# Altium footprint library BMS_Footprints.PcbLib: 16 footprints
Each footprint in its own frame and in the unit in brackets; x right, y up, seen from the top. Pads: shape width x height; smd on the part's side, far side on the other; paste and mask are expansions set on the pad; w line width, h text height; cw(c..) or ccw(c..) is an arc to the next point about the centre after c.
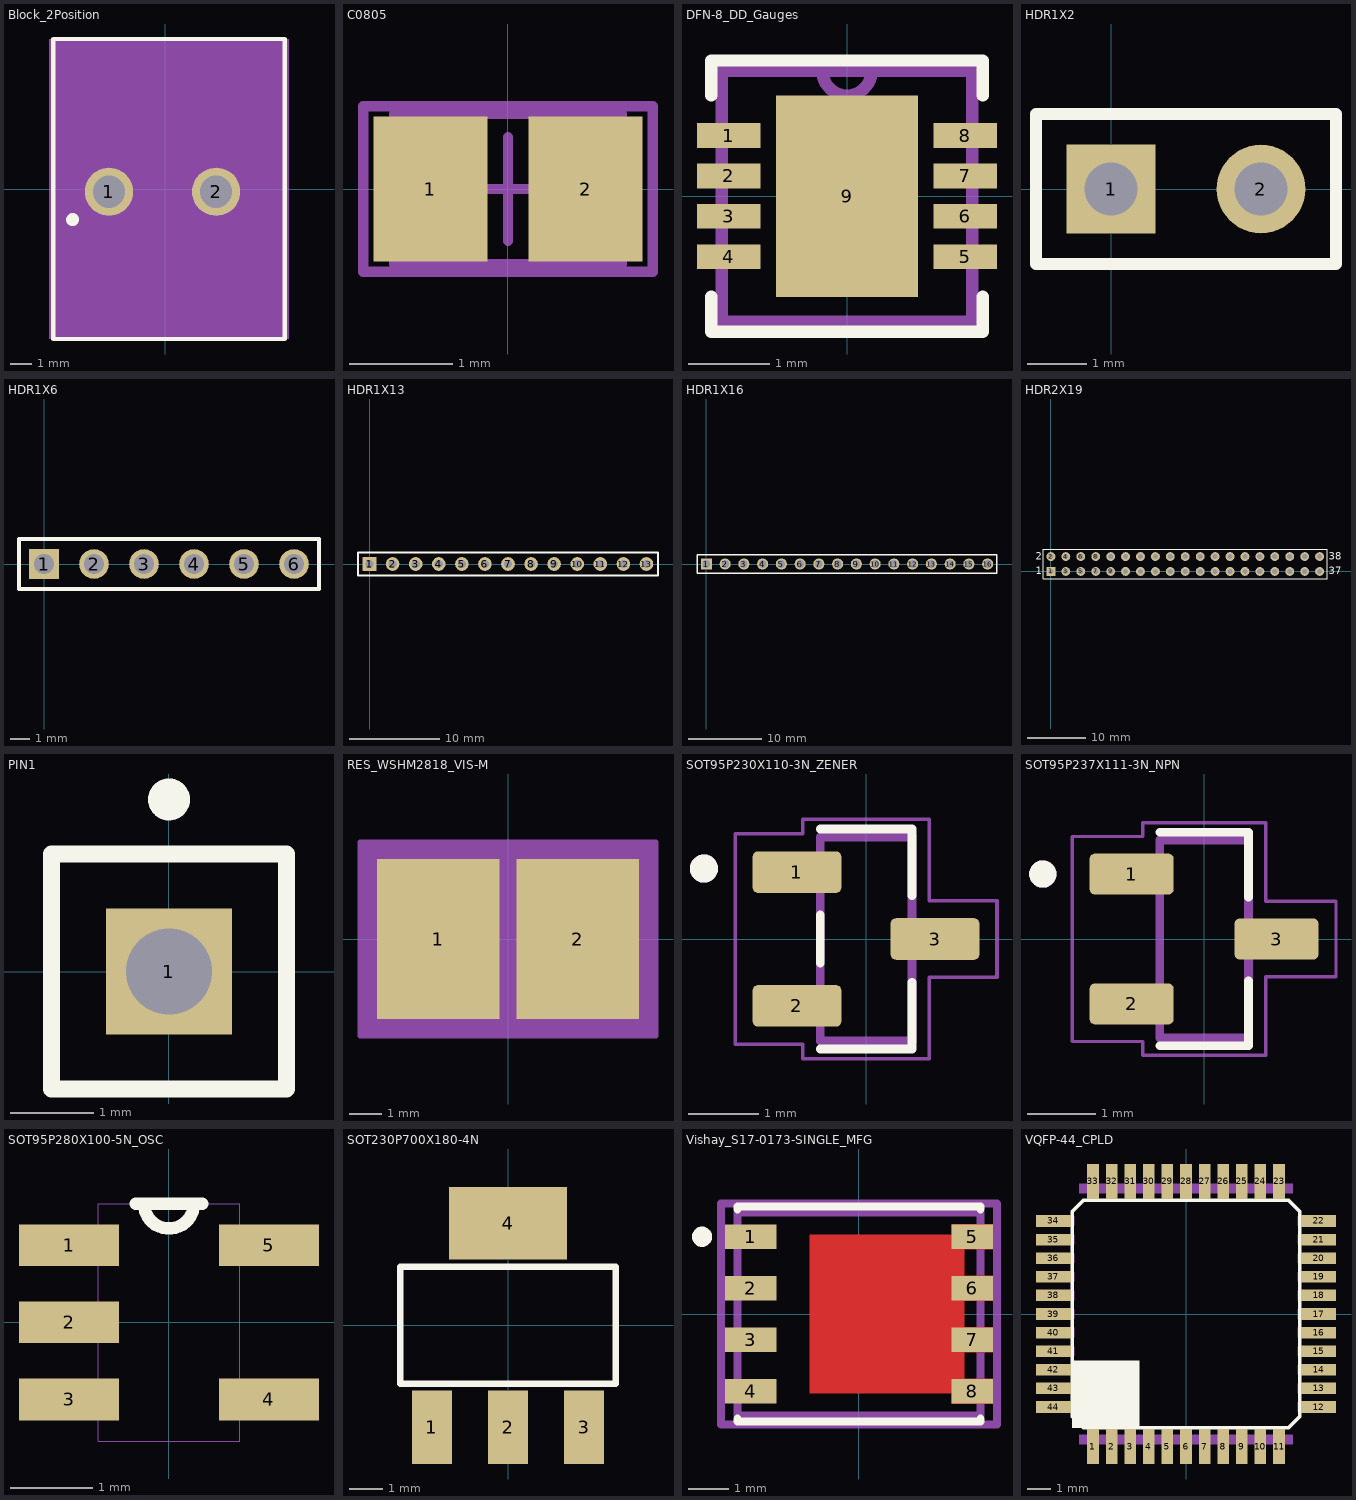
[diagram p0: the footprints below, top view; thin cyan lines are the x and y axes]

## Block_2Position [mm]
pads (2):
  round 2.25 hole 1.5: 1(-2.627,-0.127) 2(2.373,-0.127)
Top Overlay:
  circle w0.4: c-4.327,-1.427 r0.1
  lines w0.2: -5.227,-7 5.573,-7 5.573,-4.387 5.573,-3.157 5.573,4.263 5.573,6.985 ; -5.227,-6.985 -5.227,4.673 -5.227,7 5.573,7
Mechanical 13:
  lines w0.1: -5.127,-6.985 5.473,-6.985 5.473,-4.287 5.473,-3.257 5.473,4.363 5.473,6.985 -5.127,6.985 -5.127,4.573 -5.127,-6.985
Mechanical 15:
  region: 5.773,-6.985 -5.427,-6.985 -5.427,6.985 5.773,6.985
3D body: height 16, standoff 0, extent -5.227,-7 5.573,7

## C0805 [mm] "Chip Capacitor, Body 2.0x1.3mm, IPC High Density"
height 1.4
pads (2):
  rect 1.1x1.4 smd: 1(-0.75,0) 2(0.75,0)
Mechanical 13:
  lines w0.1: -1.1,-0.725 1.1,-0.725 1.1,0.725 -1.1,0.725 -1.1,-0.725
Mechanical 15:
  lines w0.1: -0.5,0 0.5,0 ; 0,-0.5 0,0.5 ; -1.4,-0.8 1.4,-0.8 1.4,0.8 -1.4,0.8 -1.4,-0.8
3D body: height 1.4, standoff 0, extent -1.1,-0.725 1.1,0.725

## DFN-8_DD_Gauges [mil]
pads (9):
  rect 31x12 smd: 1(-57.5,29.53) 2(-57.5,9.84) 3(-57.5,-9.84) 4(-57.5,-29.53) 5(57.5,-29.53) 6(57.5,-9.84) 7(57.5,9.84) 8(57.5,29.53)
  rect 69x98 smd paste-78.74: 9(0,0)
Top Overlay:
  lines w6: -66,-49 -66,-66 66,-66 66,-49 ; -66,49 -66,66 66,66 66,49
Top Paste:
  region: 34.5,-49 -34.5,-49 -34.5,49 34.5,49
Mechanical 13:
  lines w6: -12,61 ccw(c0,61) 12,61 ; -12,61 12,61 ; -12,61 -61,61 -61,-61 61,-61 61,61 12,61
3D body "step_temp.STEP": height 31.5, standoff 0, extent -59.06,-59.06 59.06,59.06

## HDR1X2 [mm] "Connector; Header; 2 Position"
pads (2):
  rect 1.5x1.5 hole 0.9: 1(0,0)
  round 1.5 hole 0.9: 2(2.54,0)
Top Overlay:
  lines w0.2: -1.27,-1.27 3.81,-1.27 3.81,1.27 -1.27,1.27 -1.27,-1.27

## HDR1X6 [mm] "Connector; Header; 6 Position"
pads (6):
  rect 1.5x1.5 hole 1.02: 1(0,0)
  round 1.5 hole 1.02: 2(2.54,0) 3(5.08,0) 4(7.62,0) 5(10.16,0) 6(12.7,0)
Top Overlay:
  lines w0.2: -1.27,-1.27 13.97,-1.27 13.97,1.27 -1.27,1.27 -1.27,-1.27

## HDR1X13 [mm] "Connector; Header; 13 Position"
pads (13):
  rect 1.5x1.5 hole 0.9: 1(0,0)
  round 1.5 hole 0.9: 2(2.54,0) 3(5.08,0) 4(7.62,0) 5(10.16,0) 6(12.7,0) 7(15.24,0) 8(17.78,0) 9(20.32,0) 10(22.86,0) 11(25.4,0) 12(27.94,0) 13(30.48,0)
Top Overlay:
  lines w0.2: -1.27,-1.27 -1.27,1.27 0.635,1.27 31.75,1.27 31.75,-1.27 -1.27,-1.27

## HDR1X16 [mm] "Connector; Header; 16 Position"
pads (16):
  rect 1.5x1.5 hole 1.02: 1(0,0)
  round 1.5 hole 1.02: 2(2.54,0) 3(5.08,0) 4(7.62,0) 5(10.16,0) 6(12.7,0) 7(15.24,0) 8(17.78,0) 9(20.32,0) 10(22.86,0) 11(25.4,0) 12(27.94,0) 13(30.48,0) 14(33.02,0) 15(35.56,0) 16(38.1,0)
Top Overlay:
  lines w0.2: -1.27,-1.27 -1.27,1.27 0.635,1.27 39.37,1.27 39.37,-1.27 -1.27,-1.27

## HDR2X19 [mm] "Connector; Header; 19x2 Position"
pads (38):
  rect 1.5x1.5 hole 0.9: 1(0,0)
  round 1.5 hole 0.9: 2(0,2.54) 3(2.54,0) 4(2.54,2.54) 5(5.08,0) 6(5.08,2.54) 7(7.62,0) 8(7.62,2.54) 9(10.16,0) 10(10.16,2.54) 11(12.7,0) 12(12.7,2.54) 13(15.24,0) 14(15.24,2.54) 15(17.78,0) 16(17.78,2.54) 17(20.32,0) 18(20.32,2.54) 19(22.86,0) 20(22.86,2.54) 21(25.4,0) 22(25.4,2.54) 23(27.94,0) 24(27.94,2.54) 25(30.48,0) 26(30.48,2.54) 27(33.02,0) 28(33.02,2.54) 29(35.56,0) 30(35.56,2.54) 31(38.1,0) 32(38.1,2.54) 33(40.64,0) 34(40.64,2.54) 35(43.18,0) 36(43.18,2.54) 37(45.72,0) 38(45.72,2.54)
Top Overlay:
  lines w0.2: -1.27,-1.27 -1.27,3.81 46.99,3.81 46.99,-1.27 -1.27,-1.27
  text "38" at 47.244,2.032 h1.27
  text "37" at 47.244,-0.508 h1.27
  text "1" at -2.54,-0.508 h1.27
  text "2" at -2.54,2.032 h1.27

## PIN1 [mm] "Connector; Plug"
pads (1):
  rect 1.5x1.5 hole 1.02: 1(0,0)
Top Overlay:
  circle w0.25: c0,2.05 r0.125
  lines w0.2: -1.4,-1.4 1.4,-1.4 1.4,1.4 -1.4,1.4 -1.4,-1.4

## RES_WSHM2818_VIS-M [mil]
pads (2):
  rect 147x192 smd paste+0 mask+0: 1(-83.5,0) 2(83.5,0)
Mechanical 5:
  region: 172,-111 -172,-111 -172,111 172,111
Mechanical 13:
  lines w1: -145,-95 -145,95 ; -145,-95 -10,-95 -10,95 -145,95 ; -145,-95 145,-95 ; -145,-95 -145,95 ; -145,95 145,95 ; 145,-95 10,-95 10,95 145,95 ; 145,-95 145,95 ; 145,-95 145,95
Mechanical 15:
  region: 177,-116 -177,-116 -177,116 177,116
  lines w6: -177,-116 -177,116 177,116 177,-116 -177,-116
3D body: height 10, standoff 0, extent 0,0 10,10

## SOT95P230X110-3N_ZENER [mm]
pads (3):
  rrect25% 1.26x0.59 smd: 1(-0.98,0.95) 2(-0.98,-0.95) 3(0.98,0)
Top Overlay:
  circle w0.2: c-2.3,1 r0.1
  lines w0.127: -0.65,-1.559 0.65,-1.559 0.65,-0.615 ; -0.65,-0.342 -0.65,0.342 ; -0.65,1.559 0.65,1.559 0.65,0.615
Mechanical 13:
  circle w0.2: c-2.3,1 r0.1
  lines w0.127: -0.65,-1.45 -0.65,1.45 0.65,1.45 0.65,-1.45 -0.65,-1.45
Mechanical 15:
  lines w0.05: -1.86,-1.495 -0.9,-1.495 -0.9,-1.7 0.9,-1.7 0.9,-0.545 1.86,-0.545 1.86,0.545 0.9,0.545 0.9,1.7 -0.9,1.7 -0.9,1.495 -1.86,1.495 -1.86,-1.495
3D body "step_temp.STEP": height 1.1, standoff 0, extent -1.15,-1.45 1.15,1.45

## SOT95P237X111-3N_NPN [mm]
pads (3):
  rrect25% 1.23x0.6 smd: 1(-1.06,0.95) 2(-1.06,-0.95) 3(1.06,0)
Top Overlay:
  circle w0.2: c-2.36,0.95 r0.1
  lines w0.127: -0.65,-1.564 0.65,-1.564 0.65,-0.614 ; -0.65,1.564 0.65,1.564 0.65,0.614
Mechanical 13:
  circle w0.2: c-2.36,0.95 r0.1
  lines w0.127: -0.65,-1.45 -0.65,1.45 0.65,1.45 0.65,-1.45 -0.65,-1.45
Mechanical 15:
  lines w0.05: -1.93,-1.5 -0.9,-1.5 -0.9,-1.7 0.9,-1.7 0.9,-0.55 1.93,-0.55 1.93,0.55 0.9,0.55 0.9,1.7 -0.9,1.7 -0.9,1.5 -1.93,1.5 -1.93,-1.5

## SOT95P280X100-5N_OSC [mil]
pads (5):
  rect 48x20 smd: 1(-48,37) 2(-48,0) 3(-48,-37) 4(48,-37) 5(48,37)
Top Overlay:
  lines w6: -16,57 -12,57 ; 16,57 12,57 ; -12,57 ccw(c0,57) 12,57 ; -12,57 12,57
Mechanical 13:
  lines w0: -34,-46 -55,-46 -55,-29 -34,-29 ; -34,-46 -34,-29 ; -34,-46 -34,-57 34,-57 34,-46 ; -34,-29 -34,-9 ; -34,-9 -55,-9 -55,9 -34,9 ; -34,-9 -34,9 ; -34,9 -34,29 ; -34,29 -55,29 -55,46 -34,46 ; -34,29 -34,46 ; -34,46 -34,57 -12,57 ; -12,57 ccw(c0,57) 12,57 ; -12,57 12,57 ; 12,57 34,57 34,46 ; 34,-46 55,-46 55,-29 34,-29 ; 34,-46 34,-29 ; 34,-29 34,29 ; 34,29 55,29 55,46 34,46 ; 34,29 34,46

## SOT230P700X180-4N [mil]
pads (4):
  rect 48x88 smd: 1(-91,-122) 2(0,-122) 3(91,-122)
  rect 141.73x86.61 smd: 4(0,122.01)
Top Overlay:
  lines w8: -129,-70 -129,70 129,70 129,-70 -129,-70

## Vishay_S17-0173-SINGLE_MFG [mm]
pads (8):
  rect 1.27x0.61 smd paste+0 mask+0: 1(-2.67,1.905) 2(-2.67,0.635) 3(-2.67,-0.635) 4(-2.67,-1.905)
  rect 1.016x0.61 smd paste+0 mask+0: 5(2.794,1.905) 6(2.794,0.635) 7(2.794,-0.635) 8(2.794,-1.905)
Top Layer:
  region: -1.215,1.955 2.285,1.955 2.285,2.21 3.305,2.21 3.305,1.6 2.595,1.6 2.595,0.94 3.305,0.94 3.305,0.33 2.595,0.33 2.595,-0.33 3.305,-0.33 3.305,-0.94 2.595,-0.94 2.595,-1.6 3.305,-1.6 3.305,-2.21 2.285,-2.21 2.285,-1.955 -1.215,-1.955
Top Overlay:
  circle w0.25: c-3.87,1.905 r0.125
  lines w0.2: -2.995,-2.585 -2.995,-2.65 2.995,-2.65 2.995,-2.585 ; -2.995,2.585 -2.995,2.65 2.995,2.65 2.995,2.585
Mechanical 10:
  lines w0.2: -3.405,-2.73 3.405,-2.73 3.405,2.73 -3.405,2.73 -3.405,-2.73
  text ".Designator" at 0,0 h1
Mechanical 12:
  lines w0.2: -2.995,-2.5 2.995,-2.5 2.995,2.5 -2.995,2.5 -2.995,-2.5
Mechanical 15:
  lines w0.1: -0.5,0 0.5,0 ; 0,-0.5 0,0.5
  lines w0.2: -3.405,-2.73 3.405,-2.73 3.405,2.73 -3.405,2.73 -3.405,-2.73
3D body "Trans_Vishay_SI7850DP-T1-E3_eec.STEP": height 0.25, standoff 0, extent -3.405,-2.73 3.405,2.73

## VQFP-44_CPLD [mm] "CPLD"
pads (44):
  rect 0.5x1.5 smd: 1(-4,-5.7) 2(-3.2,-5.7) 3(-2.4,-5.7) 4(-1.6,-5.7) 5(-0.8,-5.7) 6(0,-5.7) 7(0.8,-5.7) 8(1.6,-5.7) 9(2.4,-5.7) 10(3.2,-5.7) 11(4,-5.7) 23(4,5.7) 24(3.2,5.7) 25(2.4,5.7) 26(1.6,5.7) 27(0.8,5.7) 28(0,5.7) 29(-0.8,5.7) 30(-1.6,5.7) 31(-2.4,5.7) 32(-3.2,5.7) 33(-4,5.7)
  rect 1.5x0.5 smd: 12(5.7,-4) 13(5.7,-3.2) 14(5.7,-2.4) 15(5.7,-1.6) 16(5.7,-0.8) 17(5.7,0) 18(5.7,0.8) 19(5.7,1.6) 20(5.7,2.4) 21(5.7,3.2) 22(5.7,4) 34(-5.7,4) 35(-5.7,3.2) 36(-5.7,2.4) 37(-5.7,1.6) 38(-5.7,0.8) 39(-5.7,0) 40(-5.7,-0.8) 41(-5.7,-1.6) 42(-5.7,-2.4) 43(-5.7,-3.2) 44(-5.7,-4)
Top Overlay:
  region: -2,-4.9 -4.9,-4.9 -4.9,-2 -2,-2
  lines w0.152: -4.9,-4.4 -4.9,4.4 -4.4,4.9 4.4,4.9 4.9,4.4 4.9,-4.4 4.4,-4.9 -4.4,-4.9 -4.9,-4.4
Mechanical 13:
  drawing of 44 lines, arcs and shapes, not listed